# EAGLE library part ALBERT_ZIGZAG-ISP (library Zigzag ISP connector)
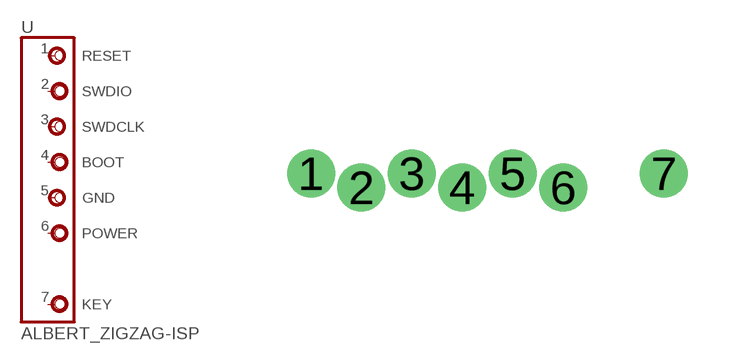
[diagram p0: symbol with the pads of ALBERT_ZIGZAG-ISP; footprint ALBERT_ZIGZAG-ISP]

Designator prefix -

## ALBERT_ZIGZAG-ISP  [ALBERT_ZIGZAG-ISP]
1  RESET  pas
2  SWDIO  pas
3  SWDCLK  pas
4  BOOT  pas
5  GND  pas
6  POWER  pas
7  KEY  pas

## Footprint ALBERT_ZIGZAG-ISP (pad centres in mm)
Header for the OS4000-T
drill 0.7 pad 1.143: 1 0,0.178; 2 1.27,-0.178; 3 2.54,0.178; 4 3.81,-0.178; 5 5.08,0.178; 6 6.35,-0.178; 7 8.89,0.178